# Altium footprint library WE-SPXO.PcbLib: 21 footprints (part 1 of 2)
Each footprint in its own frame and in the unit in brackets; x right, y up, seen from the top. Pads: shape width x height; smd on the part's side, far side on the other; paste and mask are expansions set on the pad; w line width, h text height; cw(c..) or ccw(c..) is an arc to the next point about the centre after c.
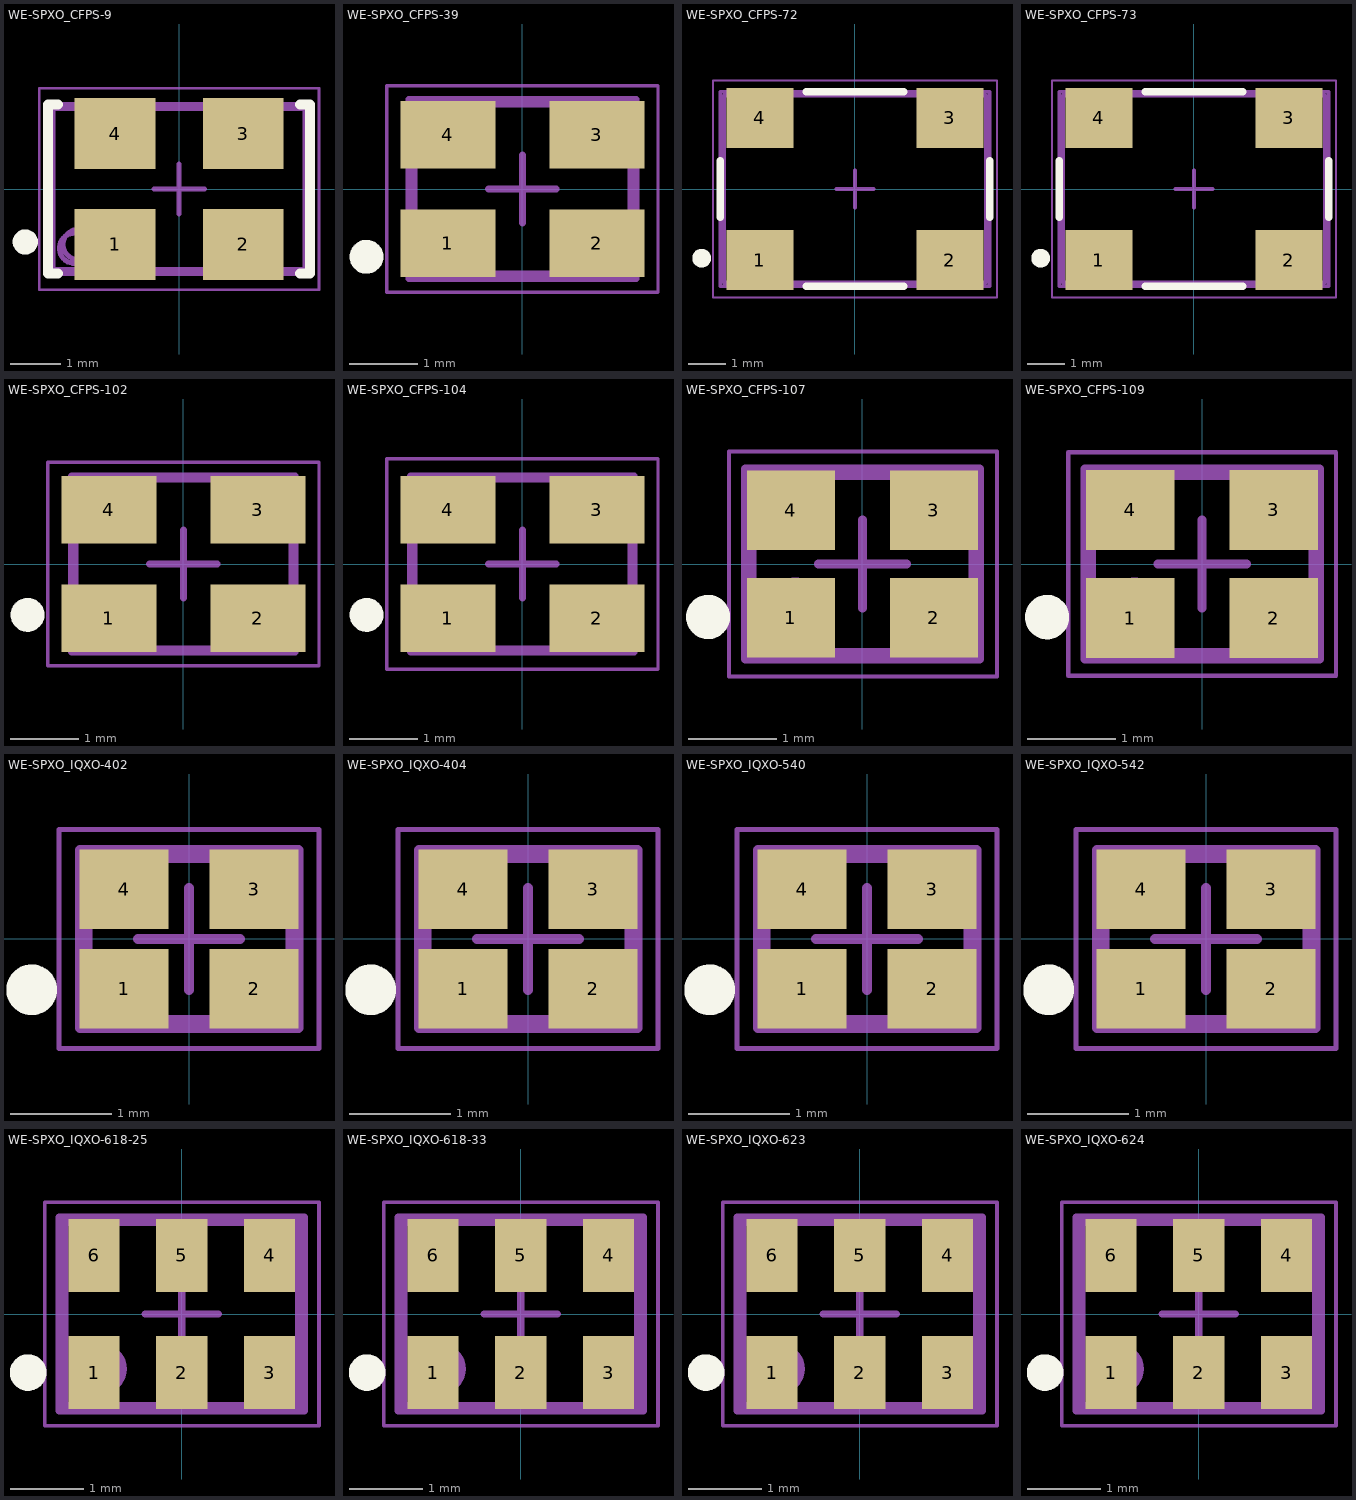
[diagram p0: the footprints below, top view; thin cyan lines are the x and y axes]

## WE-SPXO_CFPS-9 [mm] "Simple Packaged Quartz Oscillator, body 5.2x3.4mm"
height 1.3
pads (4):
  rect 1.6x1.4 smd: 1(-1.27,-1.1) 2(1.27,-1.1) 3(1.27,1.1) 4(-1.27,1.1)
Top Overlay:
  circle w0.25: c-3.05,-1.05 r0.125
  lines w0.2: -2.4,-1.675 -2.6,-1.675 -2.6,1.675 -2.4,1.675 ; 2.4,-1.675 2.6,-1.675 2.6,1.675 2.4,1.675
Top Assembly:
  circle w0.1: c-2.075,-1.175 r0.3
  lines w0.1: -2.575,-1.675 2.575,-1.675 2.575,1.675 -2.575,1.675 -2.575,-1.675
Top Designator:
  text ".Designator" at -3.647,-0.357 h1
Top 3D Body:
  circle w0.1: c-2,-1.1 r0.3
  lines w0.1: -2.5,-1.6 -2.5,1.6 2.5,1.6 2.5,-1.6 -2.5,-1.6
Top Courtyard:
  lines w0.05: -2.775,-2 -2.775,2 2.775,2 2.775,-2 -2.775,-2
Top Component Center:
  lines w0.1: -0.5,0 0.5,0 ; 0,-0.5 0,0.5
3D body "CFPS-9.stp": height 1.32, standoff 0.02, extent -2.6,-1.7 2.6,1.7

## WE-SPXO_CFPS-39 [mm] "Simple Packaged Quartz Oscillator, body 3.2x2.5mm"
height 1.2
pads (4):
  rect 1.4x1 smd: 1(-1.1,-0.8) 2(1.1,-0.8) 3(1.1,0.8) 4(-1.1,0.8)
Top Overlay:
  circle w0.25: c-2.3,-1 r0.125
Top Assembly:
  circle w0.1: c-1.175,-0.825 r0.3
  lines w0.1: -1.675,-1.325 -1.675,1.325 1.675,1.325 1.675,-1.325 -1.675,-1.325
Top Designator:
  text ".Designator" at -3.647,-0.357 h1
Top 3D Body:
  circle w0.1: c-1.1,-0.75 r0.3
  lines w0.1: -1.6,-1.25 -1.6,1.25 1.6,1.25 1.6,-1.25 -1.6,-1.25
Top Courtyard:
  lines w0.05: -2,-1.525 -2,1.525 2,1.525 2,-1.525 -2,-1.525
Top Component Center:
  lines w0.1: -0.5,0 0.5,0 ; 0,-0.5 0,0.5
3D body "CFPS-39.stp": height 1.2, standoff 0, extent -1.6,-1.25 1.6,1.25

## WE-SPXO_CFPS-72 [mm] "Simple Packaged Quartz Oscillator, body 7.2x5.2mm"
height 1.4
pads (4):
  rect 1.8x1.6 smd: 1(-2.54,-1.9) 2(2.54,-1.9) 3(2.54,1.9) 4(-2.54,1.9)
Top Overlay:
  circle w0.25: c-4.1,-1.85 r0.125
  lines w0.2: -3.6,-0.75 -3.6,0.75 ; -1.3,-2.6 1.3,-2.6 ; -1.3,2.6 1.3,2.6 ; 3.6,-0.75 3.6,0.75
Top Assembly:
  circle w0.1: c-2.8,-1.8 r0.5
  lines w0.1: -3.6,-2.6 3.6,-2.6 3.6,2.6 -3.6,2.6 -3.6,-2.6
Top Designator:
  text ".Designator" at -3.647,-0.357 h1
Top 3D Body:
  circle w0.1: c-2.7,-1.7 r0.5
  lines w0.1: -3.5,-2.5 3.5,-2.5 3.5,2.5 -3.5,2.5 -3.5,-2.5
Top Courtyard:
  lines w0.05: -3.8,-2.9 3.8,-2.9 3.8,2.9 -3.8,2.9 -3.8,-2.9
Top Component Center:
  lines w0.1: -0.5,0 0.5,0 ; 0,-0.5 0,0.5
3D body "CFPS-72.stp": height 1.8, standoff 0, extent -3.5,-2.5 3.5,2.5

## WE-SPXO_CFPS-73 [mm] "Simple Packaged Quartz Oscillator, body 7.2x5.2mm"
height 1.4
pads (4):
  rect 1.8x1.6 smd: 1(-2.54,-1.9) 2(2.54,-1.9) 3(2.54,1.9) 4(-2.54,1.9)
Top Overlay:
  circle w0.25: c-4.1,-1.85 r0.125
  lines w0.2: -3.6,-0.75 -3.6,0.75 ; -1.3,-2.6 1.3,-2.6 ; -1.3,2.6 1.3,2.6 ; 3.6,-0.75 3.6,0.75
Top Assembly:
  circle w0.1: c-2.8,-1.8 r0.5
  lines w0.1: -3.6,-2.6 3.6,-2.6 3.6,2.6 -3.6,2.6 -3.6,-2.6
Top Designator:
  text ".Designator" at -3.647,-0.357 h1
Top 3D Body:
  circle w0.1: c-2.7,-1.7 r0.5
  lines w0.1: -3.5,-2.5 3.5,-2.5 3.5,2.5 -3.5,2.5 -3.5,-2.5
Top Courtyard:
  lines w0.05: -3.8,-2.9 3.8,-2.9 3.8,2.9 -3.8,2.9 -3.8,-2.9
Top Component Center:
  lines w0.1: -0.5,0 0.5,0 ; 0,-0.5 0,0.5
3D body "CFPS-73.stp": height 1.8, standoff 0, extent -3.5,-2.5 3.5,2.5

## WE-SPXO_CFPS-102 [mm] "Crystal Oscillator, SMT, CFPS-102"
height 1.2
pads (4):
  rect 1.4x1 smd: 1(-1.1,-0.8) 2(1.1,-0.8) 3(1.1,0.8) 4(-1.1,0.8)
Top Overlay:
  circle w0.25: c-2.3,-0.75 r0.125
Top Assembly:
  circle w0.1: c-1.15,-0.8 r0.3
  lines w0.1: -1.65,-1.3 -1.65,1.3 1.65,1.3 1.65,-1.3 -1.65,-1.3
Top Designator:
  text ".Designator" at -3.647,-0.357 h1
Top 3D Body:
  circle w0.1: c-1.1,-0.75 r0.3
  lines w0.1: -1.6,-1.25 -1.6,1.25 1.6,1.25 1.6,-1.25 -1.6,-1.25
Top Courtyard:
  lines w0.05: -2,-1.5 -2,1.5 2,1.5 2,-1.5 -2,-1.5
Top Component Center:
  lines w0.1: -0.5,0 0.5,0 ; 0,-0.5 0,0.5
3D body "CFPS-102.stp": height 1.2, standoff 0, extent -1.6,-1.25 1.6,1.25

## WE-SPXO_CFPS-104 [mm] "Crystal Oscillator, SMT, CFPS-104"
height 1.2
pads (4):
  rect 1.4x1 smd: 1(-1.1,-0.8) 2(1.1,-0.8) 3(1.1,0.8) 4(-1.1,0.8)
Top Overlay:
  circle w0.25: c-2.3,-0.75 r0.125
Top Assembly:
  circle w0.1: c-1.15,-0.8 r0.3
  lines w0.1: -1.65,-1.3 1.65,-1.3 1.65,1.3 -1.65,1.3 -1.65,-1.3
Top Designator:
  text ".Designator" at -3.647,-0.357 h1
Top 3D Body:
  circle w0.1: c-1.1,-0.75 r0.3
  lines w0.1: -1.6,-1.25 -1.6,1.25 1.6,1.25 1.6,-1.25 -1.6,-1.25
Top Courtyard:
  lines w0.05: -2,-1.55 2,-1.55 2,1.55 -2,1.55 -2,-1.55
Top Component Center:
  lines w0.1: -0.5,0 0.5,0 ; 0,-0.5 0,0.5
3D body "CFPS-104.stp": height 1.2, standoff 0, extent -1.6,-1.25 1.6,1.25

## WE-SPXO_CFPS-107 [mm] "Crystal Oscillator, SMT, CFPS-107"
height 0.95
pads (4):
  rect 1x0.9 smd: 1(-0.81,-0.61) 2(0.81,-0.61) 3(0.81,0.61) 4(-0.81,0.61)
Top Overlay:
  circle w0.25: c-1.75,-0.6 r0.125
Top Assembly:
  circle w0.1: c-0.825,-0.575 r0.3
  lines w0.1: -1.325,-1.075 -1.325,1.075 1.325,1.075 1.325,-1.075 -1.325,-1.075
Top Designator:
  text ".Designator" at -3.647,-0.357 h1
Top 3D Body:
  circle w0.1: c-0.75,-0.5 r0.3
  lines w0.1: -1.25,-1 1.25,-1 1.25,1 -1.25,1 -1.25,-1
Top Courtyard:
  lines w0.05: -1.512,-1.275 1.525,-1.275 1.525,1.275 -1.512,1.275 -1.512,-1.275
Top Component Center:
  lines w0.1: -0.5,0 0.5,0 ; 0,-0.5 0,0.5
3D body "CFPS-107.stp": height 0.8, standoff 0, extent -1.25,-1 1.25,1

## WE-SPXO_CFPS-109 [mm] "Crystal Oscillator, SMT, CFPS-109"
height 0.95
pads (4):
  rect 1x0.9 smd: 1(-0.81,-0.61) 2(0.81,-0.61) 3(0.81,0.61) 4(-0.81,0.61)
Top Overlay:
  circle w0.25: c-1.75,-0.6 r0.125
Top Assembly:
  circle w0.1: c-0.825,-0.575 r0.3
  lines w0.1: -1.325,-1.075 -1.325,1.075 1.325,1.075 1.325,-1.075 -1.325,-1.075
Top Designator:
  text ".Designator" at -3.647,-0.357 h1
Top 3D Body:
  circle w0.1: c-0.75,-0.5 r0.3
  lines w0.1: -1.25,-1 1.25,-1 1.25,1 -1.25,1 -1.25,-1
Top Courtyard:
  lines w0.05: -1.512,-1.262 1.512,-1.262 1.512,1.262 -1.512,1.262 -1.512,-1.262
Top Component Center:
  lines w0.1: -0.5,0 0.5,0 ; 0,-0.5 0,0.5
3D body "CFPS-109.stp": height 0.95, standoff 0, extent -1.25,-1 1.25,1

## WE-SPXO_IQXO-402 [mm] "Crystal Oscillator, SMT, IQXO-402"
height 0.8
pads (4):
  rect 0.88x0.78 smd: 1(-0.64,-0.49) 2(0.64,-0.49) 3(0.64,0.49) 4(-0.64,0.49)
Top Overlay:
  circle w0.25: c-1.55,-0.5 r0.125
Top Assembly:
  circle w0.1: c-0.675,-0.475 r0.2
  lines w0.1: -1.075,-0.875 1.075,-0.875 1.075,0.875 -1.075,0.875 -1.075,-0.875
Top Designator:
  text ".Designator" at -3.647,-0.357 h1
Top 3D Body:
  circle w0.1: c-0.6,-0.4 r0.2
  lines w0.1: -1,-0.8 1,-0.8 1,0.8 -1,0.8 -1,-0.8
Top Courtyard:
  lines w0.05: -1.28,-1.08 -1.28,1.08 1.28,1.08 1.28,-1.08 -1.28,-1.08
Top Component Center:
  lines w0.1: -0.5,0 0.5,0 ; 0,-0.5 0,0.5
3D body "IQXO-402.stp": height 0.8, standoff 0, extent -1,-0.8 1,0.8

## WE-SPXO_IQXO-404 [mm] "Crystal Oscillator, SMT, IQXO-404"
height 0.8
pads (4):
  rect 0.88x0.78 smd: 1(-0.64,-0.49) 2(0.64,-0.49) 3(0.64,0.49) 4(-0.64,0.49)
Top Overlay:
  circle w0.25: c-1.55,-0.5 r0.125
Top Assembly:
  circle w0.1: c-0.675,-0.475 r0.2
  lines w0.1: -1.075,-0.875 1.075,-0.875 1.075,0.875 -1.075,0.875 -1.075,-0.875
Top Designator:
  text ".Designator" at -3.647,-0.357 h1
Top 3D Body:
  circle w0.1: c-0.6,-0.4 r0.2
  lines w0.1: -1,-0.8 1,-0.8 1,0.8 -1,0.8 -1,-0.8
Top Courtyard:
  lines w0.05: -1.28,-1.08 -1.28,1.08 1.28,1.08 1.28,-1.08 -1.28,-1.08
Top Component Center:
  lines w0.1: -0.5,0 0.5,0 ; 0,-0.5 0,0.5
3D body "IQXO-404.stp": height 0.8, standoff 0, extent -1,-0.8 1,0.8

## WE-SPXO_IQXO-540 [mm] "Simple Packaged Quartz Oscillator, body 2x1.6mm"
height 0.7
pads (4):
  rect 0.88x0.78 smd: 1(-0.64,-0.49) 2(0.64,-0.49) 3(0.64,0.49) 4(-0.64,0.49)
Top Overlay:
  circle w0.25: c-1.55,-0.5 r0.125
Top Assembly:
  circle w0.1: c-0.675,-0.475 r0.2
  lines w0.1: -1.075,-0.875 1.075,-0.875 1.075,0.875 -1.075,0.875 -1.075,-0.875
Top Designator:
  text ".Designator" at -3.647,-0.357 h1
Top 3D Body:
  circle w0.1: c-0.6,-0.4 r0.2
  lines w0.1: -1,-0.8 1,-0.8 1,0.8 -1,0.8 -1,-0.8
Top Courtyard:
  lines w0.05: -1.28,-1.08 -1.28,1.08 1.28,1.08 1.28,-1.08 -1.28,-1.08
Top Component Center:
  lines w0.1: -0.5,0 0.5,0 ; 0,-0.5 0,0.5
3D body "IQXO-540.stp": height 0.8, standoff 0, extent -1,-0.8 1,0.8

## WE-SPXO_IQXO-542 [mm] "Simple Packaged Quartz Oscillator, body 2x1.6mm"
height 0.7
pads (4):
  rect 0.88x0.78 smd: 1(-0.64,-0.49) 2(0.64,-0.49) 3(0.64,0.49) 4(-0.64,0.49)
Top Overlay:
  circle w0.25: c-1.55,-0.5 r0.125
Top Assembly:
  circle w0.1: c-0.675,-0.475 r0.2
  lines w0.1: -1.075,-0.875 -1.075,0.875 1.075,0.875 1.075,-0.875 -1.075,-0.875
Top Designator:
  text ".Designator" at -3.647,-0.357 h1
Top 3D Body:
  circle w0.1: c-0.6,-0.4 r0.2
  lines w0.1: -1,-0.8 -1,0.8 1,0.8 1,-0.8 -1,-0.8
Top Courtyard:
  lines w0.05: -1.28,-1.08 1.28,-1.08 1.28,1.08 -1.28,1.08 -1.28,-1.08
Top Component Center:
  lines w0.1: -0.5,0 0.5,0 ; 0,-0.5 0,0.5
3D body "IQXO-542.stp": height 0.7, standoff 0, extent -1,-0.8 1,0.8

## WE-SPXO_IQXO-618-25 [mm] "Crystal Oscillator, SMT, IQXO-618-25"
height 1.1
pads (6):
  rect 0.7x1 smd: 1(-1.2,-0.8) 2(0,-0.8) 3(1.2,-0.8) 4(1.2,0.8) 5(0,0.8) 6(-1.2,0.8)
Top Overlay:
  circle w0.25: c-2.1,-0.8 r0.125
Top Assembly:
  circle w0.1: c-1.175,-0.825 r0.3
  lines w0.1: -1.675,-1.325 -1.675,1.325 1.675,1.325 1.675,-1.325 -1.675,-1.325
Top Designator:
  text ".Designator" at -3.647,-0.357 h1
Top 3D Body:
  circle w0.1: c-1.1,-0.75 r0.3
  lines w0.1: -1.6,-1.25 -1.6,1.25 1.6,1.25 1.6,-1.25 -1.6,-1.25
Top Courtyard:
  lines w0.05: -1.875,-1.525 -1.875,1.525 1.875,1.525 1.875,-1.525 -1.875,-1.525
Top Component Center:
  lines w0.1: -0.5,0 0.5,0 ; 0,-0.5 0,0.5
3D body "IQXO-618-25.stp": height 1.1, standoff 0, extent -1.6,-1.25 1.6,1.25

## WE-SPXO_IQXO-618-33 [mm] "Crystal Oscillator, SMT, IQXO-618-33"
height 1.1
pads (6):
  rect 0.7x1 smd: 1(-1.2,-0.8) 2(0,-0.8) 3(1.2,-0.8) 4(1.2,0.8) 5(0,0.8) 6(-1.2,0.8)
Top Overlay:
  circle w0.25: c-2.1,-0.8 r0.125
Top Assembly:
  circle w0.1: c-1.175,-0.825 r0.3
  lines w0.1: -1.675,-1.325 1.675,-1.325 1.675,1.325 -1.675,1.325 -1.675,-1.325
Top Designator:
  text ".Designator" at -3.647,-0.357 h1
Top 3D Body:
  circle w0.1: c-1.1,-0.75 r0.3
  lines w0.1: -1.6,-1.25 1.6,-1.25 1.6,1.25 -1.6,1.25 -1.6,-1.25
Top Courtyard:
  lines w0.05: -1.875,-1.525 1.875,-1.525 1.875,1.525 -1.875,1.525 -1.875,-1.525
Top Component Center:
  lines w0.1: -0.5,0 0.5,0 ; 0,-0.5 0,0.5
3D body "IQXO-618-33.stp": height 1.1, standoff 0, extent -1.6,-1.25 1.6,1.25

## WE-SPXO_IQXO-623 [mm] "Crystal Oscillator, SMT, IQXO-623"
height 1.1
pads (6):
  rect 0.7x1 smd: 1(-1.2,-0.8) 2(0,-0.8) 3(1.2,-0.8) 4(1.2,0.8) 5(0,0.8) 6(-1.2,0.8)
Top Overlay:
  circle w0.25: c-2.1,-0.8 r0.125
Top Assembly:
  circle w0.1: c-1.175,-0.825 r0.3
  lines w0.1: -1.675,-1.325 -1.675,1.325 1.675,1.325 1.675,-1.325 -1.675,-1.325
Top Designator:
  text ".Designator" at -3.647,-0.357 h1
Top 3D Body:
  circle w0.1: c-1.1,-0.75 r0.3
  lines w0.1: -1.6,-1.25 -1.6,1.25 1.6,1.25 1.6,-1.25 -1.6,-1.25
Top Courtyard:
  lines w0.05: -1.875,-1.525 -1.875,1.525 1.875,1.525 1.875,-1.525 -1.875,-1.525
Top Component Center:
  lines w0.1: -0.5,0 0.5,0 ; 0,-0.5 0,0.5
3D body "IQXO-623.stp": height 1.1, standoff 0, extent -1.6,-1.25 1.6,1.25

## WE-SPXO_IQXO-624 [mm] "Crystal Oscillator, SMT, IQXO-624"
height 1.1
pads (6):
  rect 0.7x1 smd: 1(-1.2,-0.8) 2(0,-0.8) 3(1.2,-0.8) 4(1.2,0.8) 5(0,0.8) 6(-1.2,0.8)
Top Overlay:
  circle w0.25: c-2.1,-0.8 r0.125
Top Assembly:
  circle w0.1: c-1.175,-0.825 r0.3
  lines w0.1: -1.675,-1.325 -1.675,1.325 1.675,1.325 1.675,-1.325 -1.675,-1.325
Top Designator:
  text ".Designator" at -3.647,-0.357 h1
Top 3D Body:
  circle w0.1: c-1.1,-0.75 r0.3
  lines w0.1: -1.6,-1.25 -1.6,1.25 1.6,1.25 1.6,-1.25 -1.6,-1.25
Top Courtyard:
  lines w0.05: -1.875,-1.525 -1.875,1.525 1.875,1.525 1.875,-1.525 -1.875,-1.525
Top Component Center:
  lines w0.1: -0.5,0 0.5,0 ; 0,-0.5 0,0.5
3D body "IQXO-624.stp": height 1.1, standoff 0, extent -1.6,-1.25 1.6,1.25